# Altium footprint library CONV_R1SE-0505-R.PcbLib: 1 footprints
Each footprint in its own frame and in the unit in brackets; x right, y up, seen from the top. Pads: shape width x height; smd on the part's side, far side on the other; paste and mask are expansions set on the pad; w line width, h text height; cw(c..) or ccw(c..) is an arc to the next point about the centre after c.
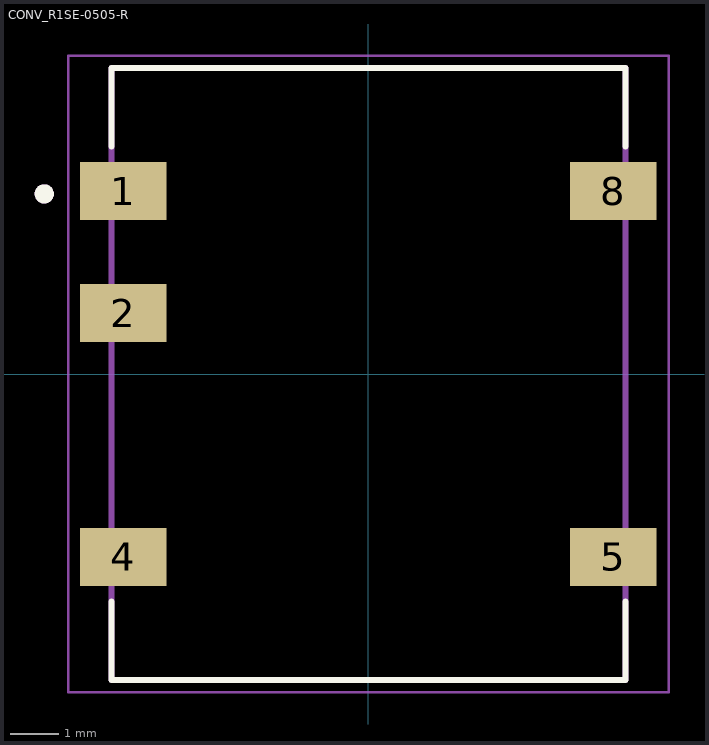
[diagram p0: the footprint, top view; thin cyan lines are the x and y axes]

## CONV_R1SE-0505-R [mm]
height 7
pads (5):
  rect 1.8x1.2 smd: 1(-5.1,3.81) 2(-5.1,1.27) 4(-5.1,-3.81) 5(5.1,-3.81) 8(5.1,3.81)
Top Overlay:
  circle w0.2: c-6.75,3.75 r0.1
  lines w0.127: -5.35,-4.74 -5.35,-6.375 5.35,-6.375 5.35,-4.74 ; -5.35,4.74 -5.35,6.375 5.35,6.375 5.35,4.74
Assembly Top:
  circle w0.2: c-6.75,3.75 r0.1
  lines w0.127: -5.35,-6.375 5.35,-6.375 5.35,6.375 -5.35,6.375 -5.35,-6.375
Courtyard Top:
  lines w0.05: -6.25,-6.625 6.25,-6.625 6.25,6.625 -6.25,6.625 -6.25,-6.625
3D body "step_temp.STEP": height 7, standoff 0, extent -5.55,-6.375 5.55,6.375